# EAGLE library part ATSAMS70N-TQFP100 (library fab)
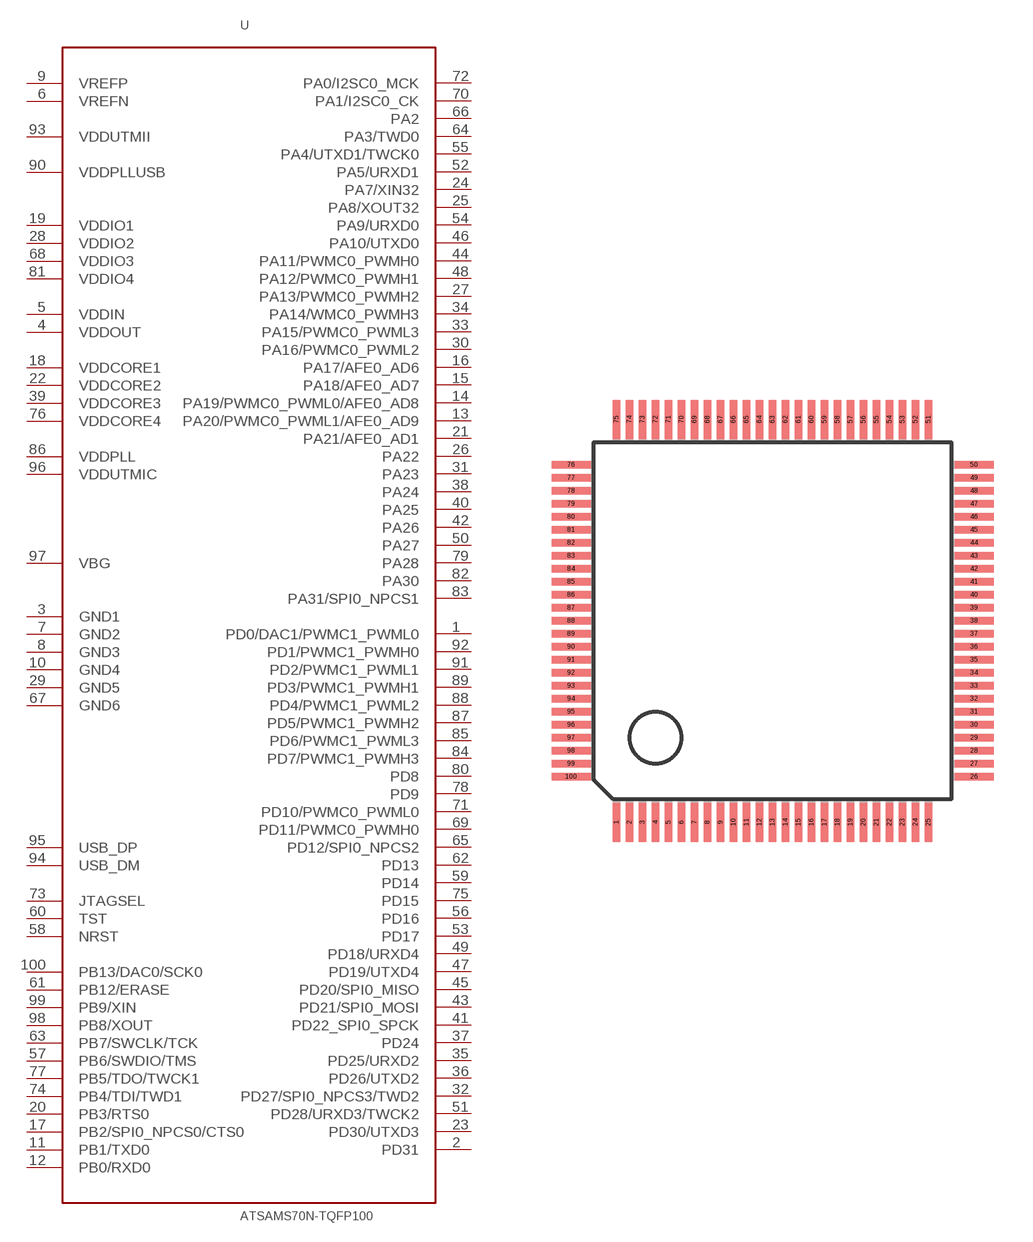
[diagram p18: symbol with the pads of TQFP100-14X14; footprint TQFP100-14X14]

Designator prefix U

## ATSAMS70N-TQFP100  [TQFP100-14X14]
1  PD0/DAC1/PWMC1_PWML0
2  PD31
3  GND1
4  VDDOUT
5  VDDIN
6  VREFN
7  GND2
8  GND3
9  VREFP
10  GND4
11  PB1/TXD0
12  PB0/RXD0
13  PA20/PWMC0_PWML1/AFE0_AD9
14  PA19/PWMC0_PWML0/AFE0_AD8
15  PA18/AFE0_AD7
16  PA17/AFE0_AD6
17  PB2/SPI0_NPCS0/CTS0
18  VDDCORE1
19  VDDIO1
20  PB3/RTS0
21  PA21/AFE0_AD1
22  VDDCORE2
23  PD30/UTXD3
24  PA7/XIN32
25  PA8/XOUT32
26  PA22
27  PA13/PWMC0_PWMH2
28  VDDIO2
29  GND5
30  PA16/PWMC0_PWML2
31  PA23
32  PD27/SPI0_NPCS3/TWD2
33  PA15/PWMC0_PWML3
34  PA14/WMC0_PWMH3
35  PD25/URXD2
36  PD26/UTXD2
37  PD24
38  PA24
39  VDDCORE3
40  PA25
41  PD22_SPI0_SPCK
42  PA26
43  PD21/SPI0_MOSI
44  PA11/PWMC0_PWMH0
45  PD20/SPI0_MISO
46  PA10/UTXD0
47  PD19/UTXD4
48  PA12/PWMC0_PWMH1
49  PD18/URXD4
50  PA27
51  PD28/URXD3/TWCK2
52  PA5/URXD1
53  PD17
54  PA9/URXD0
55  PA4/UTXD1/TWCK0
56  PD16
57  PB6/SWDIO/TMS
58  NRST
59  PD14
60  TST
61  PB12/ERASE
62  PD13
63  PB7/SWCLK/TCK
64  PA3/TWD0
65  PD12/SPI0_NPCS2
66  PA2
67  GND6
68  VDDIO3
69  PD11/PWMC0_PWMH0
70  PA1/I2SC0_CK
71  PD10/PWMC0_PWML0
72  PA0/I2SC0_MCK
73  JTAGSEL
74  PB4/TDI/TWD1
75  PD15
76  VDDCORE4
77  PB5/TDO/TWCK1
78  PD9
79  PA28
80  PD8
81  VDDIO4
82  PA30
83  PA31/SPI0_NPCS1
84  PD7/PWMC1_PWMH3
85  PD6/PWMC1_PWML3
86  VDDPLL
87  PD5/PWMC1_PWMH2
88  PD4/PWMC1_PWML2
89  PD3/PWMC1_PWMH1
90  VDDPLLUSB
91  PD2/PWMC1_PWML1
92  PD1/PWMC1_PWMH0
93  VDDUTMII
94  USB_DM
95  USB_DP
96  VDDUTMIC
97  VBG
98  PB8/XOUT
99  PB9/XIN
100  PB13/DAC0/SCK0

## Footprint TQFP100-14X14 (pad centres in mm)
Thin Quad Flat Pack 14x14 mm
smd 0.27 x 1.5: 1 -6,-7.75; 2 -5.5,-7.75; 3 -5,-7.75; 4 -4.5,-7.75; 5 -4,-7.75; 6 -3.5,-7.75; 7 -3,-7.75; 8 -2.5,-7.75; 9 -2,-7.75; 10 -1.5,-7.75; 11 -1,-7.75; 12 -0.5,-7.75; 13 0,-7.75; 14 0.5,-7.75; 15 1,-7.75; 16 1.5,-7.75; 17 2,-7.75; 18 2.5,-7.75; 19 3,-7.75; 20 3.5,-7.75; 21 4,-7.75; 22 4.5,-7.75; 23 5,-7.75; 24 5.5,-7.75; 25 6,-7.75; 51 6,7.75; 52 5.5,7.75; 53 5,7.75; 54 4.5,7.75; 55 4,7.75; 56 3.5,7.75; 57 3,7.75; 58 2.5,7.75; 59 2,7.75; 60 1.5,7.75; 61 1,7.75; 62 0.5,7.75; 63 0,7.75; 64 -0.5,7.75; 65 -1,7.75; 66 -1.5,7.75; 67 -2,7.75; 68 -2.5,7.75; 69 -3,7.75; 70 -3.5,7.75; 71 -4,7.75; 72 -4.5,7.75; 73 -5,7.75; 74 -5.5,7.75; 75 -6,7.75
smd 1.5 x 0.27: 26 7.75,-6; 27 7.75,-5.5; 28 7.75,-5; 29 7.75,-4.5; 30 7.75,-4; 31 7.75,-3.5; 32 7.75,-3; 33 7.75,-2.5; 34 7.75,-2; 35 7.75,-1.5; 36 7.75,-1; 37 7.75,-0.5; 38 7.75,0; 39 7.75,0.5; 40 7.75,1; 41 7.75,1.5; 42 7.75,2; 43 7.75,2.5; 44 7.75,3; 45 7.75,3.5; 46 7.75,4; 47 7.75,4.5; 48 7.75,5; 49 7.75,5.5; 50 7.75,6; 76 -7.75,6; 77 -7.75,5.5; 78 -7.75,5; 79 -7.75,4.5; 80 -7.75,4; 81 -7.75,3.5; 82 -7.75,3; 83 -7.75,2.5; 84 -7.75,2; 85 -7.75,1.5; 86 -7.75,1; 87 -7.75,0.5; 88 -7.75,0; 89 -7.75,-0.5; 90 -7.75,-1; 91 -7.75,-1.5; 92 -7.75,-2; 93 -7.75,-2.5; 94 -7.75,-3; 95 -7.75,-3.5; 96 -7.75,-4; 97 -7.75,-4.5; 98 -7.75,-5; 99 -7.75,-5.5; 100 -7.75,-6